# Altium footprint library CMOS(SMD).PcbLib: 1 footprints
Each footprint in its own frame and in the unit in brackets; x right, y up, seen from the top. Pads: shape width x height; smd on the part's side, far side on the other; paste and mask are expansions set on the pad; w line width, h text height; cw(c..) or ccw(c..) is an arc to the next point about the centre after c.
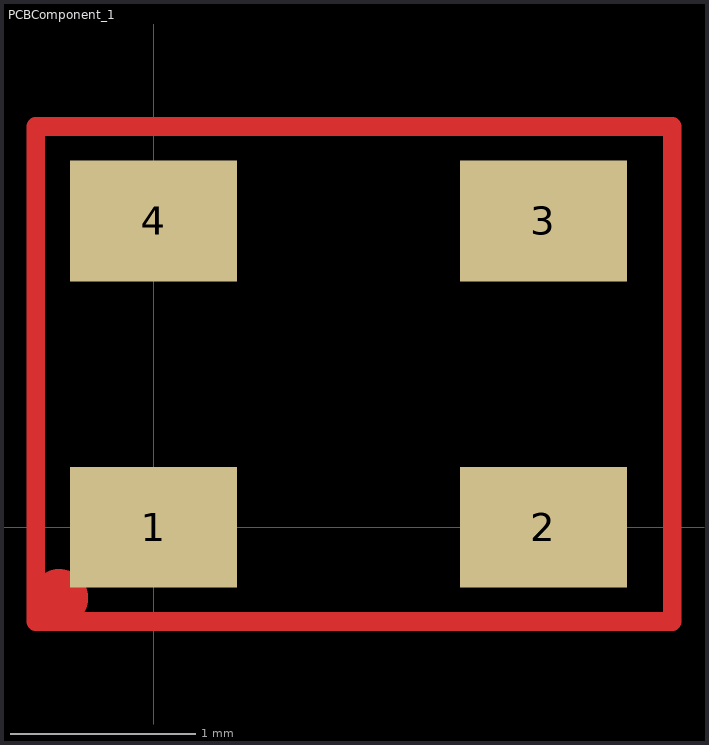
[diagram p0: the footprint, top view; thin cyan lines are the x and y axes]

## PCBComponent_1 [mm]
pads (4):
  rect 0.9x0.65 all layers, no hole: 1(0,0) 2(2.1,0) 3(2.1,1.65) 4(0,1.65)
Top Layer:
  circle w0.17: c-0.508,-0.381 r0.07
  lines w0.1: -0.635,-0.508 2.794,-0.508 2.794,-0.286 2.794,0.079 2.794,1.683 2.794,2.159 -0.635,2.159 -0.635,-0.508
3D body "User Library-SMD-3225_4P.STEP": height 1.05, standoff 0, extent -0.584,-0.361 2.616,2.139